# EAGLE library part TFT_ARDUINO-UNO-MEGA (library TFT)
Pantalla LCD TFT de 2,4” Chip controlador LCD ILI9341 (Enlace para descargar el Datasheet ILI9341) 320×240 pixeles de resolución y 262.000 colores Panel táctil resistivo de 4 hilos Compatible con tensión de 5V ya que dispone de regulador de tensión en placa Conexión Shield para Arduino UNO Tamaño: 71 x 52 x 7 mm (L x A x H)
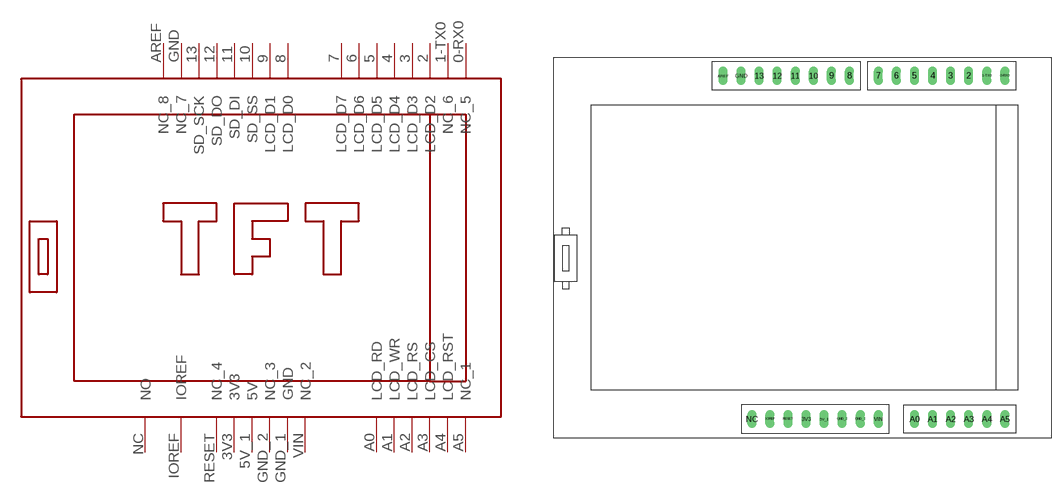
[diagram p0: symbol with the pads of TFT-ARDUINO-UNO-MEGA; footprint TFT-ARDUINO-UNO-MEGA]

Designator prefix -

## TFT_ARDUINO-UNO-MEGA  [TFT-ARDUINO-UNO-MEGA]
0-RX0  NC_5
1-TX0  NC_6
2  LCD_D2
3  LCD_D3
3V3  3V3
4  LCD_D4
5  LCD_D5
5V_1  5V
6  LCD_D6
7  LCD_D7
8  LCD_D0
9  LCD_D1
10  SD_SS
11  SD_DI
12  SD_DO
13  SD_SCK
A0  LCD_RD
A1  LCD_WR
A2  LCD_RS
A3  LCD_CS
A4  LCD_RST
A5  NC_1
AREF  NC_8
GND  NC_7
GND_1  GND
GND_2  NC_3
IOREF  IOREF
NC  NO
RESET  NC_4
VIN  NC_2

## Footprint TFT-ARDUINO-UNO-MEGA (pad centres in mm)
drill 0.6 pad 1.27 long: 0-RX0 29.464,26.67; 1-TX0 26.924,26.67; 2 24.384,26.67; 3 21.844,26.67; 3V3 1.524,-21.59; 4 19.304,26.67; 5 16.764,26.67; 5V_1 4.064,-21.59; 6 14.224,26.67; 7 11.684,26.67; 8 7.62,26.67; 9 5.08,26.67; 10 2.54,26.67; 11 0,26.67; 12 -2.54,26.67; 13 -5.08,26.67; A0 16.764,-21.59; A1 19.304,-21.59; A2 21.844,-21.59; A3 24.384,-21.59; A4 26.924,-21.59; A5 29.464,-21.59; AREF -10.16,26.67; GND -7.62,26.67; GND_1 9.144,-21.59; GND_2 6.604,-21.59; IOREF -3.556,-21.59; NC -6.096,-21.59; RESET -1.016,-21.59; VIN 11.684,-21.59